# EAGLE library part DMP2104V-7 (library Diodes_Inc_By_element14_Batch_1)
P-CHANNEL ENHANCEMENT MODE MOSFET
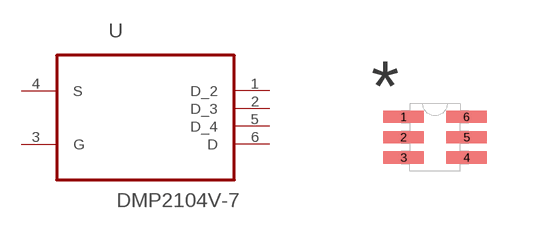
[diagram p24: symbol with the pads of SOT50P160X60-6N; footprint SOT50P160X60-6N]

Designator prefix U

## DMP2104V-7 (MPN: DMP2104V-7; OC_FARNELL: 1713861; OC_NEWARK: 25R4537; PACKAGE: SOT-6; SUPPLIER: Diodes Inc)  [SOT50P160X60-6N]
1  D_2  pas
2  D_3  pas
3  G  pas
4  S  pas
5  D_4  pas
6  D  pas

## Footprint SOT50P160X60-6N (pad centres in mm)
smd 1.016 x 0.305: 1 -0.787,0.508; 2 -0.787,0; 3 -0.787,-0.508; 4 0.787,-0.508; 5 0.787,0; 6 0.787,0.508